# EAGLE library part TMC2130BREAKOUT (library TMC2130)
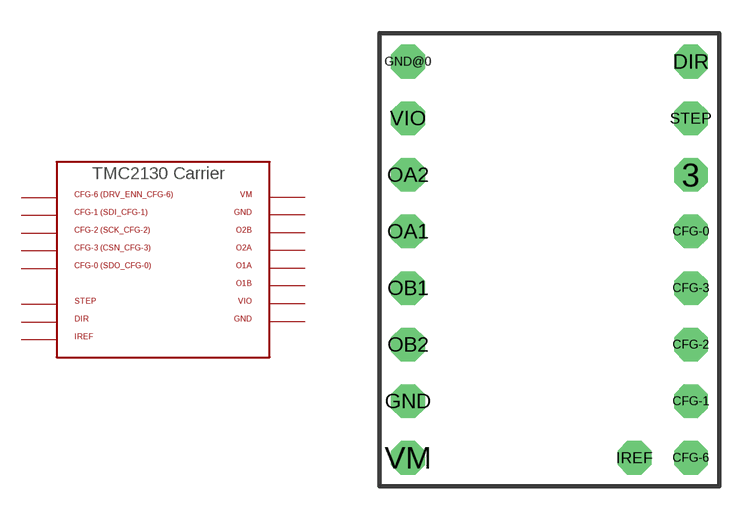
[diagram p0: symbol with the pads of TMC2130BREAKOUT; footprint TMC2130BREAKOUT]

Designator prefix -

## TMC2130BREAKOUT  [TMC2130BREAKOUT]
CFG-0  CFG-0
CFG-1  CFG-1
CFG-2  CFG-2
CFG-3  CFG-3
CFG-6  CFG-6
DIR  DIR  in
GND  GND  pwr
GND@0  GND  pwr
IREF  IREF
OA1  O1A  out
OA2  O1B  out
OB1  O2A  out
OB2  O2B  out
STEP  STEP  in
VIO  VIO  pwr
VM  VM  pwr

## Footprint TMC2130BREAKOUT (pad centres in mm)
drill 1 octagon: 3 13.97,13.97; CFG-0 13.97,11.43; CFG-1 13.97,3.81; CFG-2 13.97,6.35; CFG-3 13.97,8.89; CFG-6 13.97,1.27; DIR 13.97,19.05; GND 1.27,3.81; GND@0 1.27,19.05; IREF 11.43,1.27; OA1 1.27,11.43; OA2 1.27,13.97; OB1 1.27,8.89; OB2 1.27,6.35; STEP 13.97,16.51; VIO 1.27,16.51; VM 1.27,1.27